# Altium footprint library K3NG_PCB_Libs.PcbLib: 26 footprints (part 2 of 2)
Each footprint in its own frame and in the unit in brackets; x right, y up, seen from the top. Pads: shape width x height; smd on the part's side, far side on the other; paste and mask are expansions set on the pad; w line width, h text height; cw(c..) or ccw(c..) is an arc to the next point about the centre after c.
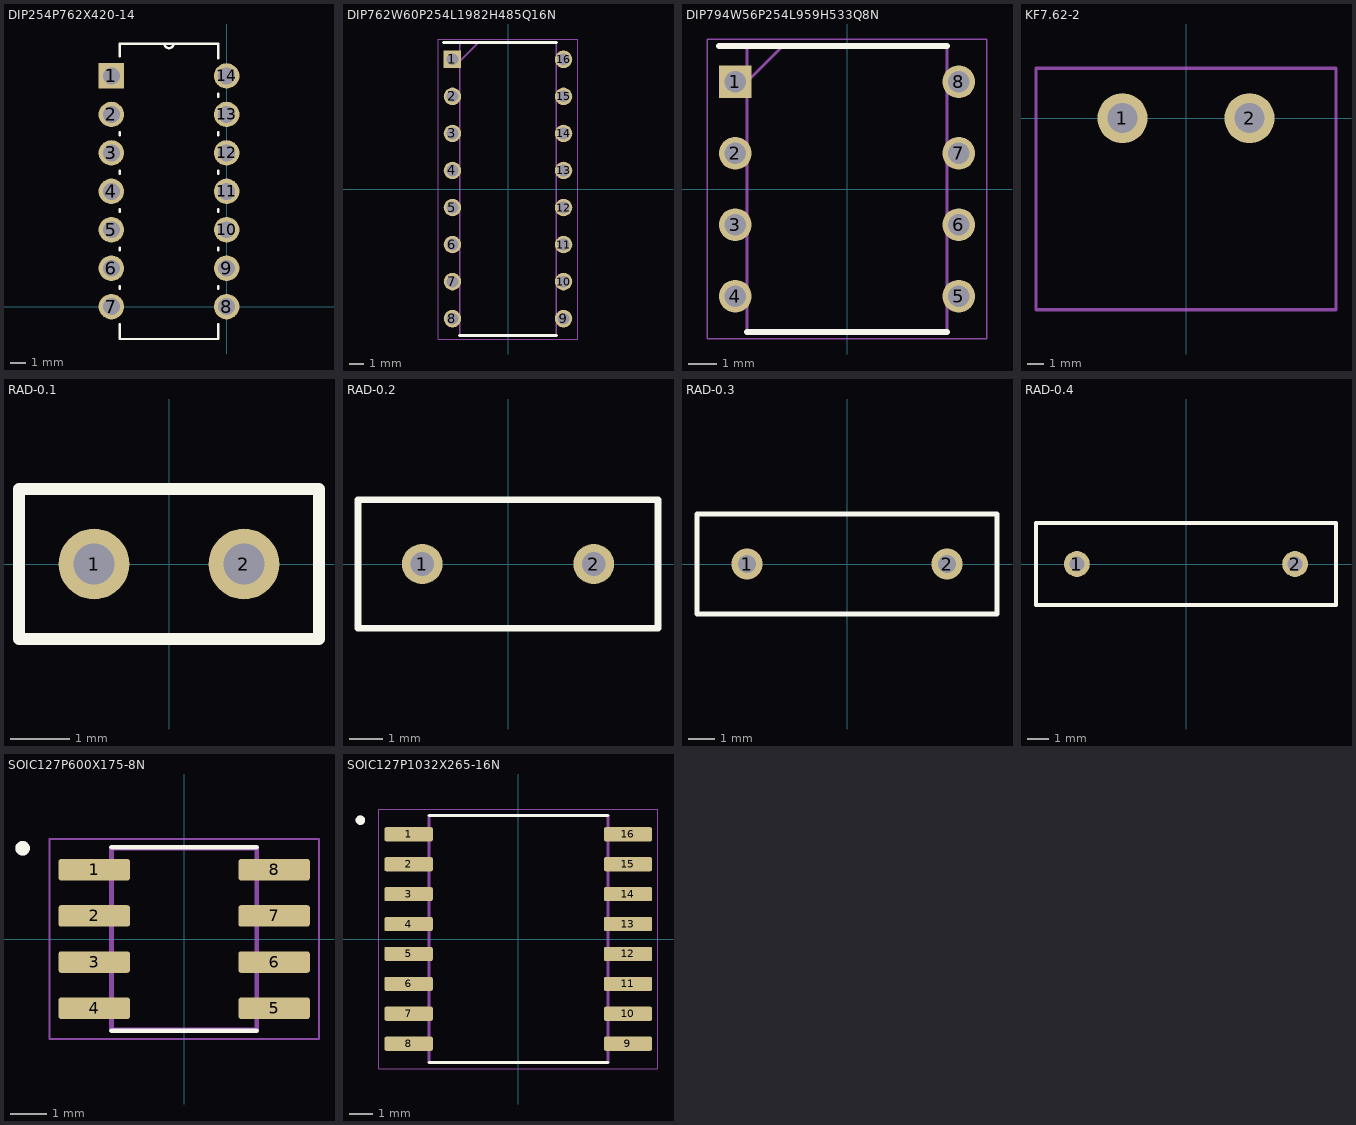
[diagram p1: the footprints below, top view; thin cyan lines are the x and y axes]

## DIP254P762X420-14 [mil]
pads (14):
  rect 66x66 hole 44: 1(-300,600)
  round 66 hole 44: 2(-300,500) 3(-300,400) 4(-300,300) 5(-300,200) 6(-300,100) 7(-300,0) 8(0,0) 9(0,100) 10(0,200) 11(0,300) 12(0,400) 13(0,500) 14(0,600)
Top Overlay:
  lines w6: -278,-46 -278,-84 -22,-84 -22,-46 ; -278,46 -278,54 ; -278,146 -278,154 ; -278,246 -278,254 ; -278,346 -278,354 ; -278,446 -278,454 ; -278,651 -278,684 -162,684 ; -22,46 -22,54 ; -22,146 -22,154 ; -22,246 -22,254 ; -22,346 -22,354 ; -22,446 -22,454 ; -22,546 -22,554 ; -22,646 -22,684 -138,684 ; -162,684 ccw(c-150,684) -138,684 ; -162,684 -138,684
3D body "74HC14N,652.stp": height 151.18, standoff -144.99, extent -331.67,-68.11 31.67,679.92

## DIP762W60P254L1982H485Q16N [mm]
pads (16):
  rect 1.2x1.2 hole 0.8: 1(-3.81,8.89)
  round 1.2 hole 0.8: 2(-3.81,6.35) 3(-3.81,3.81) 4(-3.81,1.27) 5(-3.81,-1.27) 6(-3.81,-3.81) 7(-3.81,-6.35) 8(-3.81,-8.89) 9(3.81,-8.89) 10(3.81,-6.35) 11(3.81,-3.81) 12(3.81,-1.27) 13(3.81,1.27) 14(3.81,3.81) 15(3.81,6.35) 16(3.81,8.89)
Top Overlay:
  lines w0.2: -4.41,10.035 3.325,10.035 ; -3.325,-10.035 3.325,-10.035
Mechanical 13:
  lines w0.1: -3.325,8.765 -2.055,10.035 ; -3.325,-10.035 3.325,-10.035 3.325,10.035 -3.325,10.035 -3.325,-10.035
Mechanical 15:
  lines w0.05: -4.785,-10.285 4.785,-10.285 4.785,10.285 -4.785,10.285 -4.785,-10.285
3D body "TLP627-4_F_.stp": height 4.85, standoff -3.5, extent -3.96,-9.91 3.96,9.91

## DIP794W56P254L959H533Q8N [mm]
pads (8):
  rect 1.16x1.16 hole 0.76: 1(-3.97,3.81)
  round 1.16 hole 0.76: 2(-3.97,1.27) 3(-3.97,-1.27) 4(-3.97,-3.81) 5(3.97,-3.81) 6(3.97,-1.27) 7(3.97,1.27) 8(3.97,3.81)
Top Overlay:
  lines w0.2: -4.55,5.08 3.555,5.08 ; -3.555,-5.08 3.555,-5.08
Mechanical 13:
  lines w0.1: -3.555,3.81 -2.285,5.08 ; -3.555,-5.08 3.555,-5.08 3.555,5.08 -3.555,5.08 -3.555,-5.08
Mechanical 15:
  lines w0.05: -4.96,-5.33 4.96,-5.33 4.96,5.33 -4.96,5.33 -4.96,-5.33
3D body "ADM485ANZ.stp": height 5.33, standoff -3.5, extent -4.11,-4.795 4.11,4.795

## KF7.62-2 [mm]
pads (2):
  round 3 hole 1.8: 1(-3.81,0) 2(3.81,0)
Mechanical 1:
  lines w0.2: -9,-11.5 -9,3 9,3 9,1.5 9,-11.5 -9,-11.5
3D body "KF7.62-2P.step": height 12.4, standoff -4, extent -7.62,-10 7.62,2

## RAD-0.1 [mm] "Radial Cap, Thru-Hole; 2 Leads; 0.1 in Pin Spacing"
pads (2):
  round 1.2 hole 0.7: 1(-1.27,0) 2(1.27,0)
Top Overlay:
  lines w0.2: -2.54,-1.27 -2.54,1.27 2.54,1.27 2.54,-1.27 -2.54,-1.27

## RAD-0.2 [mm] "Radial Cap, Thru-Hole; 2 Leads; 0.2 in Pin Spacing"
pads (2):
  round 1.2 hole 0.7: 1(-2.54,0) 2(2.54,0)
Top Overlay:
  lines w0.2: -4.445,-1.905 4.445,-1.905 4.445,1.905 -4.445,1.905 -4.445,-1.905

## RAD-0.3 [mm] "Radial Cap, Thru-Hole; 2 Leads; 0.3 in Pin Spacing"
height 6
pads (2):
  round 1.2 hole 0.7: 1(-3.81,0) 2(3.81,0)
Top Overlay:
  lines w0.2: -5.715,-1.905 -5.715,1.905 5.715,1.905 5.715,-1.905 -5.715,-1.905

## RAD-0.4 [mm] "Radial Cap, Thru-Hole; 2 Leads; 0.4 in Pin Spacing"
pads (2):
  round 1.2 hole 0.7: 1(-5.08,0) 2(5.08,0)
Top Overlay:
  lines w0.2: -6.985,-1.905 -6.985,1.905 6.985,1.905 6.985,-1.905 -6.985,-1.905

## SOIC127P600X175-8N [mm]
pads (8):
  rrect25% 1.97x0.59 smd: 1(-2.475,1.905) 2(-2.475,0.635) 3(-2.475,-0.635) 4(-2.475,-1.905) 5(2.475,-1.905) 6(2.475,-0.635) 7(2.475,0.635) 8(2.475,1.905)
Top Overlay:
  circle w0.2: c-4.445,2.495 r0.1
  lines w0.127: -2,-2.52 2,-2.52 ; -2,2.52 2,2.52
Mechanical 13:
  circle w0.2: c-4.445,2.495 r0.1
  lines w0.127: -2,-2.5 -2,2.5 2,2.5 2,-2.5 -2,-2.5
Mechanical 15:
  lines w0.05: -3.71,-2.75 -3.71,2.75 3.71,2.75 3.71,-2.75 -3.71,-2.75
3D body "SOIC8.STEP": height 1.5, standoff 0, extent -2.95,-2.45 2.95,2.45

## SOIC127P1032X265-16N [mm]
pads (16):
  rrect25% 2.05x0.6 smd: 1(-4.655,4.445) 2(-4.655,3.175) 3(-4.655,1.905) 4(-4.655,0.635) 5(-4.655,-0.635) 6(-4.655,-1.905) 7(-4.655,-3.175) 8(-4.655,-4.445) 9(4.655,-4.445) 10(4.655,-3.175) 11(4.655,-1.905) 12(4.655,-0.635) 13(4.655,0.635) 14(4.655,1.905) 15(4.655,3.175) 16(4.655,4.445)
Top Overlay:
  circle w0.2: c-6.705,5.045 r0.1
  lines w0.127: -3.8,-5.25 3.8,-5.25 ; -3.8,5.25 3.8,5.25
Mechanical 13:
  circle w0.2: c-6.705,5.045 r0.1
  lines w0.127: -3.8,-5.25 3.8,-5.25 3.8,5.25 -3.8,5.25 -3.8,-5.25
Mechanical 15:
  lines w0.05: -5.93,-5.5 5.93,-5.5 5.93,5.5 -5.93,5.5 -5.93,-5.5